# EAGLE library part BMX055 (library Sensor)
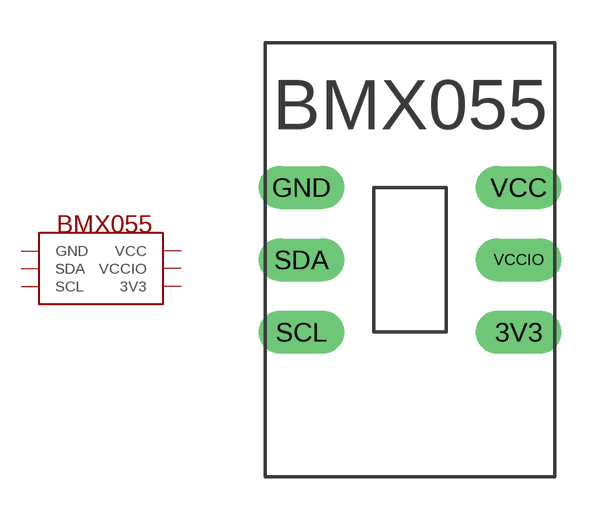
[diagram p0: symbol with the pads of BMX055; footprint BMX055]

Designator prefix -

## BMX055  [BMX055]
3V3  3V3
GND  GND
SCL  SCL
SDA  SDA
VCC  VCC
VCCIO  VCCIO

## Footprint BMX055 (pad centres in mm)
drill 1 long: 3V3 3.81,-5.08; GND -3.81,0; SCL -3.81,-5.08; SDA -3.81,-2.54; VCC 3.81,0; VCCIO 3.81,-2.54